# EAGLE library part 2CH_OPTO (library ZMPLC)
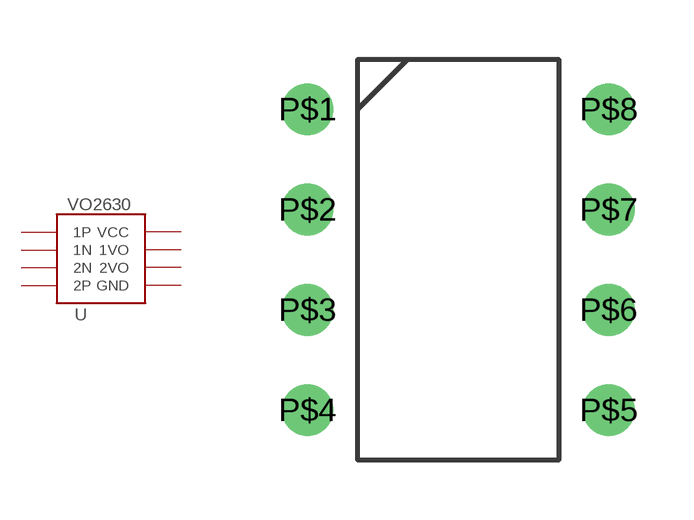
[diagram p19: symbol with the pads of DIP8; footprint DIP8]

Designator prefix -

## 2CH_OPTO  [DIP8]
P$1  1P  pas
P$2  1N  pas
P$3  2N  pas
P$4  2P  pas
P$5  GND  pwr
P$6  2VO  oc
P$7  1VO  oc
P$8  VCC  pwr

## Footprint DIP8 (pad centres in mm)
drill 0.8: P$1 0,0; P$2 0,-2.54; P$3 0,-5.08; P$4 0,-7.62; P$5 7.62,-7.62; P$6 7.62,-5.08; P$7 7.62,-2.54; P$8 7.62,0